# Altium footprint library MECH_SPACER.PcbLib: 26 footprints (part 1 of 2)
Each footprint in its own frame and in the unit in brackets; x right, y up, seen from the top. Pads: shape width x height; smd on the part's side, far side on the other; paste and mask are expansions set on the pad; w line width, h text height; cw(c..) or ccw(c..) is an arc to the next point about the centre after c.
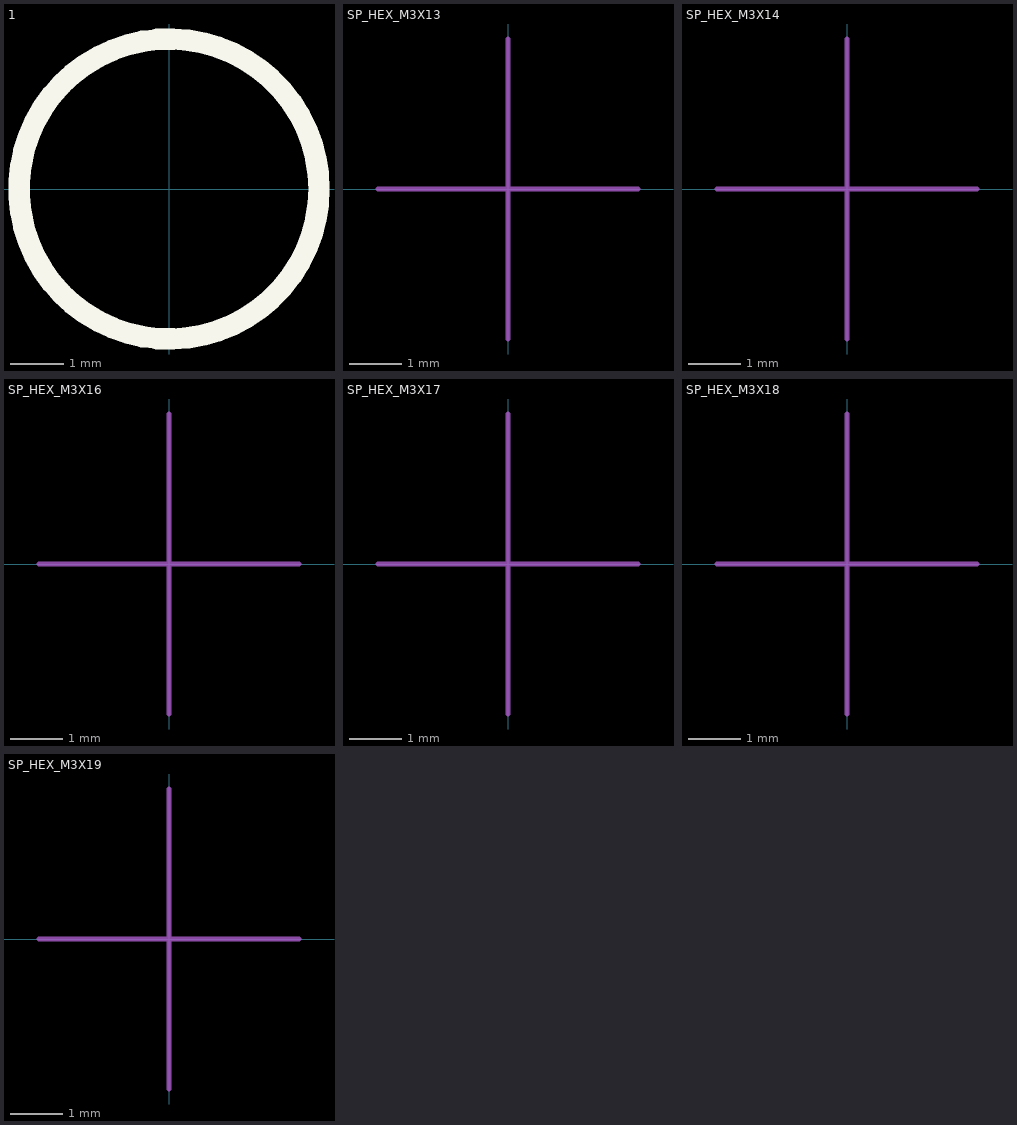
[diagram p0: the footprints below, top view; thin cyan lines are the x and y axes]

## 1 [mm] "SCREW, M2.5, 2.5mm diameter and 5.0mm PanHead"
Top Overlay:
  circle w0.4: c0,0 r2.8

## SP_HEX_M3X5 [mm] "Spacer, Hex MF M3"
3D body "Hex Spacer MF M3 L5mm.stp": height 5, standoff -6, extent -2.5,-2.887 2.5,2.887

## SP_HEX_M3X6 [mm] "Spacer, Hex MF M3"
3D body "Hex Spacer MF M3 L6mm.stp": height 6, standoff -6, extent -2.5,-2.887 2.5,2.887

## SP_HEX_M3X7 [mm] "Spacer, Hex MF M3"
3D body "Hex Spacer MF M3 L7mm.stp": height 7, standoff -6, extent -2.5,-2.887 2.5,2.887

## SP_HEX_M3X8 [mm] "Spacer, Hex MF M3"
3D body "Hex Spacer MF M3 L8mm.stp": height 8, standoff -6, extent -2.5,-2.887 2.5,2.887

## SP_HEX_M3X9 [mm] "Spacer, Hex MF M3"
3D body "Hex Spacer MF M3 L9mm.stp": height 9, standoff -6, extent -2.5,-2.887 2.5,2.887

## SP_HEX_M3X10 [mm] "Spacer, Hex MF M3"
3D body "Hex Spacer MF M3 L10mm.stp": height 10, standoff -6, extent -2.5,-2.887 2.5,2.887

## SP_HEX_M3X11 [mm] "Spacer, Hex MF M3"
3D body "Hex Spacer MF M3 L11mm.stp": height 11, standoff -6, extent -2.5,-2.887 2.5,2.887

## SP_HEX_M3X12 [mm] "Spacer, Hex MF M3"
3D body "Hex Spacer MF M3 L12mm.stp": height 12, standoff -6, extent -2.5,-2.887 2.5,2.887

## SP_HEX_M3X13 [mm] "Spacer, Hex MF M3"
Mechanical 13:
  lines w0.1: -2.5,0 2.5,0 ; 0,-2.887 0,2.887
3D body "Hex Spacer MF M3 L13mm.stp": height 13, standoff -6, extent -2.5,-2.887 2.5,2.887

## SP_HEX_M3X14 [mm] "Spacer, Hex MF M3"
Mechanical 13:
  lines w0.1: -2.5,0 2.5,0 ; 0,-2.887 0,2.887
3D body "Hex Spacer MF M3 L14mm.stp": height 14, standoff -6, extent -2.5,-2.887 2.5,2.887

## SP_HEX_M3X15 [mm] "Spacer, Hex MF M3"
3D body "Hex Spacer MF M3 L15mm.stp": height 15, standoff -6, extent -2.5,-2.9 2.5,2.873

## SP_HEX_M3X16 [mm] "Spacer, Hex MF M3"
Mechanical 13:
  lines w0.1: -2.5,0 2.5,0 ; 0,-2.887 0,2.887
3D body "Hex Spacer MF M3 L16mm.stp": height 16, standoff -6, extent -2.5,-2.887 2.5,2.887

## SP_HEX_M3X17 [mm] "Spacer, Hex MF M3"
Mechanical 13:
  lines w0.1: -2.5,0 2.5,0 ; 0,-2.887 0,2.887
3D body "Hex Spacer MF M3 L17mm.stp": height 17, standoff -6, extent -2.5,-2.887 2.5,2.887

## SP_HEX_M3X18 [mm] "Spacer, Hex MF M3"
Mechanical 13:
  lines w0.1: -2.5,0 2.5,0 ; 0,-2.887 0,2.887
3D body "Hex Spacer MF M3 L18mm.stp": height 18, standoff -6, extent -2.5,-2.887 2.5,2.887

## SP_HEX_M3X19 [mm] "Spacer, Hex MF M3"
Mechanical 13:
  lines w0.1: -2.5,0 2.5,0 ; 0,-2.887 0,2.887
3D body "Hex Spacer MF M3 L19mm.stp": height 19, standoff -6, extent -2.5,-2.887 2.5,2.887